# Altium footprint library SO8-SPE-MLX91205.PcbLib: 1 footprints
Each footprint in its own frame and in the unit in brackets; x right, y up, seen from the top. Pads: shape width x height; smd on the part's side, far side on the other; paste and mask are expansions set on the pad; w line width, h text height; cw(c..) or ccw(c..) is an arc to the next point about the centre after c.
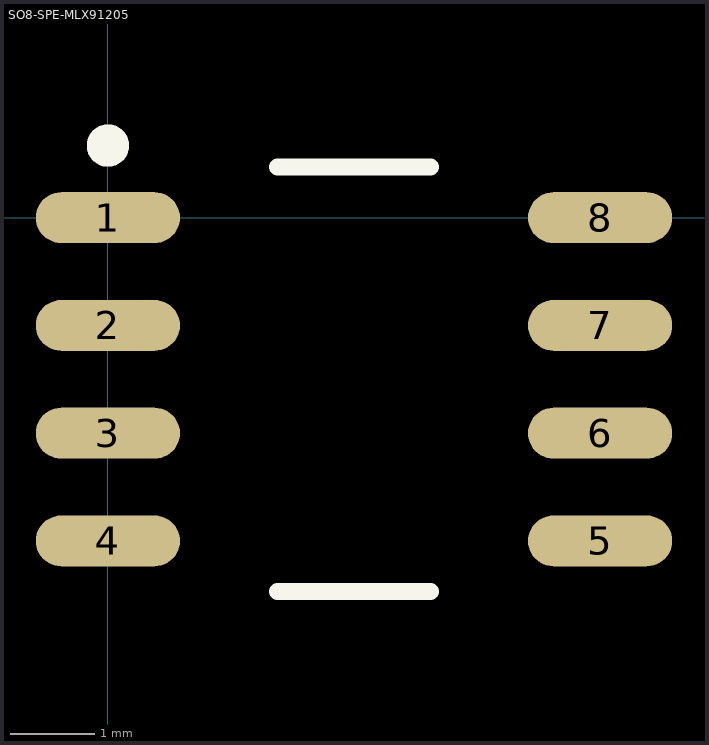
[diagram p0: the footprint, top view; thin cyan lines are the x and y axes]

## SO8-SPE-MLX91205 [mm]
height 1.7
pads (8):
  oval 1.7x0.6 smd: 1(0,0) 2(0,-1.27) 3(0,-2.54) 4(0,-3.81) 5(5.8,-3.81) 6(5.8,-2.54) 7(5.8,-1.27) 8(5.8,0)
Top Overlay:
  circle w0.25: c0,0.85 r0.125
  lines w0.2: 2,-4.405 3.8,-4.405 ; 2,0.595 3.8,0.595
3D body: height 1.73, standoff -0.04, extent -0.147,-4.369 5.989,0.521